# EAGLE library part RFM12B (library Synapseware)
The RFM12B is a great inexpensive option for wireless communication; it's an ISM band FSK transceiver module implemented with a unique PLL. These modules operate in the 434MHZ band and fully comply with FCC and ETSI regulations. This module has a wide voltage supply range of 2.2-3.8VDC. An SPI interface is used to send data and configure the RFM12 module. The configuration commands, described in the RF12 IC Datasheet linked below, can be used to set the data rate, frequency band, wake-up timer, transfer data, receive data from the 16-bit FIFO, and much more.
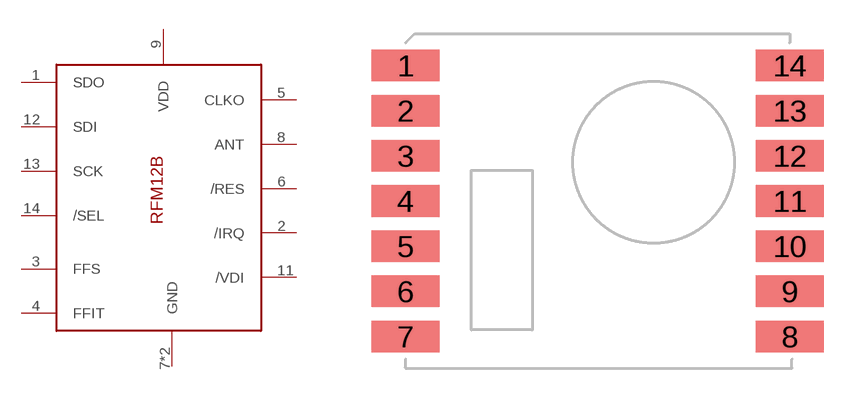
[diagram p16: symbol with the pads of RFM12B-MODULE; footprint RFM12B-MODULE]

Designator prefix -

## RFM12B  [RFM12B-MODULE]
1  SDO
2  /IRQ
3  FFS
4  FFIT
5  CLKO
6  /RES
7  GND
8  ANT
9  VDD
10  GND
11  /VDI
12  SDI
13  SCK
14  /SEL

## Footprint RFM12B-MODULE (pad centres in mm)
smd 2.997 x 1.397: 1 0,12; 2 0,10; 3 0,8; 4 0,6; 5 0,4; 6 0,2; 7 0,0; 8 17,0; 9 17,2; 10 17,4; 11 17,6; 12 17,8; 13 17,10; 14 17,12